# Altium footprint library CCGA - Square.PcbLib: 4 footprints (part 2 of 2)
Each footprint in its own frame and in the unit in brackets; x right, y up, seen from the top. Pads: shape width x height; smd on the part's side, far side on the other; paste and mask are expansions set on the pad; w line width, h text height; cw(c..) or ccw(c..) is an arc to the next point about the centre after c.
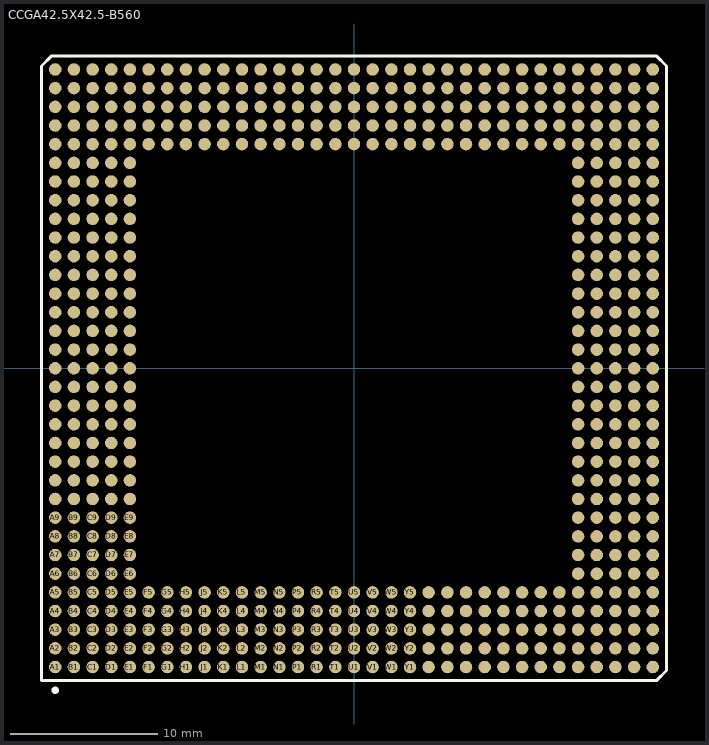
[diagram p1: the footprint, top view; thin cyan lines are the x and y axes]

## CCGA42.5X42.5-B560 [mm] "560-Pin Ceramic Column Grid Array Package (CG560)"
height 5.35
pads (560):
  round 0.85 smd: A1(-20.32,-20.32) A2(-20.32,-19.05) A3(-20.32,-17.78) A4(-20.32,-16.51) A5(-20.32,-15.24) A6(-20.32,-13.97) A7(-20.32,-12.7) A8(-20.32,-11.43) A9(-20.32,-10.16) A10(-20.32,-8.89) A11(-20.32,-7.62) A12(-20.32,-6.35) A13(-20.32,-5.08) A14(-20.32,-3.81) A15(-20.32,-2.54) A16(-20.32,-1.27) A17(-20.32,0) A18(-20.32,1.27) A19(-20.32,2.54) A20(-20.32,3.81) A21(-20.32,5.08) A22(-20.32,6.35) A23(-20.32,7.62) A24(-20.32,8.89) A25(-20.32,10.16) A26(-20.32,11.43) A27(-20.32,12.7) A28(-20.32,13.97) A29(-20.32,15.24) A30(-20.32,16.51) A31(-20.32,17.78) A32(-20.32,19.05) A33(-20.32,20.32) AA1(5.08,-20.32) AA2(5.08,-19.05) AA3(5.08,-17.78) AA4(5.08,-16.51) AA5(5.08,-15.24) AA29(5.08,15.24) AA30(5.08,16.51) AA31(5.08,17.78) AA32(5.08,19.05) AA33(5.08,20.32) AB1(6.35,-20.32) AB2(6.35,-19.05) AB3(6.35,-17.78) AB4(6.35,-16.51) AB5(6.35,-15.24) AB29(6.35,15.24) AB30(6.35,16.51) AB31(6.35,17.78) AB32(6.35,19.05) AB33(6.35,20.32) AC1(7.62,-20.32) AC2(7.62,-19.05) AC3(7.62,-17.78) AC4(7.62,-16.51) AC5(7.62,-15.24) AC29(7.62,15.24) AC30(7.62,16.51) AC31(7.62,17.78) AC32(7.62,19.05) AC33(7.62,20.32) AD1(8.89,-20.32) AD2(8.89,-19.05) AD3(8.89,-17.78) AD4(8.89,-16.51) AD5(8.89,-15.24) AD29(8.89,15.24) AD30(8.89,16.51) AD31(8.89,17.78) AD32(8.89,19.05) AD33(8.89,20.32) AE1(10.16,-20.32) AE2(10.16,-19.05) AE3(10.16,-17.78) AE4(10.16,-16.51) AE5(10.16,-15.24) AE29(10.16,15.24) AE30(10.16,16.51) AE31(10.16,17.78) AE32(10.16,19.05) AE33(10.16,20.32) AF1(11.43,-20.32) AF2(11.43,-19.05) AF3(11.43,-17.78) AF4(11.43,-16.51) AF5(11.43,-15.24) AF29(11.43,15.24) AF30(11.43,16.51) AF31(11.43,17.78) AF32(11.43,19.05) AF33(11.43,20.32) AG1(12.7,-20.32) AG2(12.7,-19.05) AG3(12.7,-17.78) AG4(12.7,-16.51) AG5(12.7,-15.24) AG29(12.7,15.24) AG30(12.7,16.51) AG31(12.7,17.78) AG32(12.7,19.05) AG33(12.7,20.32) AH1(13.97,-20.32) AH2(13.97,-19.05) AH3(13.97,-17.78) AH4(13.97,-16.51) AH5(13.97,-15.24) AH29(13.97,15.24) AH30(13.97,16.51) AH31(13.97,17.78) AH32(13.97,19.05) AH33(13.97,20.32) AJ1(15.24,-20.32) AJ2(15.24,-19.05) AJ3(15.24,-17.78) AJ4(15.24,-16.51) AJ5(15.24,-15.24) AJ6(15.24,-13.97) AJ7(15.24,-12.7) AJ8(15.24,-11.43) AJ9(15.24,-10.16) AJ10(15.24,-8.89) AJ11(15.24,-7.62) AJ12(15.24,-6.35) AJ13(15.24,-5.08) AJ14(15.24,-3.81) AJ15(15.24,-2.54) AJ16(15.24,-1.27) AJ17(15.24,0) AJ18(15.24,1.27) AJ19(15.24,2.54) AJ20(15.24,3.81) AJ21(15.24,5.08) AJ22(15.24,6.35) AJ23(15.24,7.62) AJ24(15.24,8.89) AJ25(15.24,10.16) AJ26(15.24,11.43) AJ27(15.24,12.7) AJ28(15.24,13.97) AJ29(15.24,15.24) AJ30(15.24,16.51) AJ31(15.24,17.78) AJ32(15.24,19.05) AJ33(15.24,20.32) AK1(16.51,-20.32) AK2(16.51,-19.05) AK3(16.51,-17.78) AK4(16.51,-16.51) AK5(16.51,-15.24) AK6(16.51,-13.97) AK7(16.51,-12.7) AK8(16.51,-11.43) AK9(16.51,-10.16) AK10(16.51,-8.89) AK11(16.51,-7.62) AK12(16.51,-6.35) AK13(16.51,-5.08) AK14(16.51,-3.81) AK15(16.51,-2.54) AK16(16.51,-1.27) AK17(16.51,0) AK18(16.51,1.27) AK19(16.51,2.54) AK20(16.51,3.81) AK21(16.51,5.08) AK22(16.51,6.35) AK23(16.51,7.62) AK24(16.51,8.89) AK25(16.51,10.16) AK26(16.51,11.43) AK27(16.51,12.7) AK28(16.51,13.97) AK29(16.51,15.24) AK30(16.51,16.51) AK31(16.51,17.78) AK32(16.51,19.05) AK33(16.51,20.32) AL1(17.78,-20.32) AL2(17.78,-19.05) AL3(17.78,-17.78) AL4(17.78,-16.51) AL5(17.78,-15.24) AL6(17.78,-13.97) AL7(17.78,-12.7) AL8(17.78,-11.43) AL9(17.78,-10.16) AL10(17.78,-8.89) AL11(17.78,-7.62) AL12(17.78,-6.35) AL13(17.78,-5.08) AL14(17.78,-3.81) AL15(17.78,-2.54) AL16(17.78,-1.27) AL17(17.78,0) AL18(17.78,1.27) AL19(17.78,2.54) AL20(17.78,3.81) AL21(17.78,5.08) AL22(17.78,6.35) AL23(17.78,7.62) AL24(17.78,8.89) AL25(17.78,10.16) AL26(17.78,11.43) AL27(17.78,12.7) AL28(17.78,13.97) AL29(17.78,15.24) AL30(17.78,16.51) AL31(17.78,17.78) AL32(17.78,19.05) AL33(17.78,20.32) AM1(19.05,-20.32) AM2(19.05,-19.05) AM3(19.05,-17.78) AM4(19.05,-16.51) AM5(19.05,-15.24) AM6(19.05,-13.97) AM7(19.05,-12.7) AM8(19.05,-11.43) AM9(19.05,-10.16) AM10(19.05,-8.89) AM11(19.05,-7.62) AM12(19.05,-6.35) AM13(19.05,-5.08) AM14(19.05,-3.81) AM15(19.05,-2.54) AM16(19.05,-1.27) AM17(19.05,0) AM18(19.05,1.27) AM19(19.05,2.54) AM20(19.05,3.81) AM21(19.05,5.08) AM22(19.05,6.35) AM23(19.05,7.62) AM24(19.05,8.89) AM25(19.05,10.16) AM26(19.05,11.43) AM27(19.05,12.7) AM28(19.05,13.97) AM29(19.05,15.24) AM30(19.05,16.51) AM31(19.05,17.78) AM32(19.05,19.05) AM33(19.05,20.32) AN1(20.32,-20.32) AN2(20.32,-19.05) AN3(20.32,-17.78) AN4(20.32,-16.51) AN5(20.32,-15.24) AN6(20.32,-13.97) AN7(20.32,-12.7) AN8(20.32,-11.43) AN9(20.32,-10.16) AN10(20.32,-8.89) AN11(20.32,-7.62) AN12(20.32,-6.35) AN13(20.32,-5.08) AN14(20.32,-3.81) AN15(20.32,-2.54) AN16(20.32,-1.27) AN17(20.32,0) AN18(20.32,1.27) AN19(20.32,2.54) AN20(20.32,3.81) AN21(20.32,5.08) AN22(20.32,6.35) AN23(20.32,7.62) AN24(20.32,8.89) AN25(20.32,10.16) AN26(20.32,11.43) AN27(20.32,12.7) AN28(20.32,13.97) AN29(20.32,15.24) AN30(20.32,16.51) AN31(20.32,17.78) AN32(20.32,19.05) AN33(20.32,20.32) B1(-19.05,-20.32) B2(-19.05,-19.05) B3(-19.05,-17.78) B4(-19.05,-16.51) B5(-19.05,-15.24) B6(-19.05,-13.97) B7(-19.05,-12.7) B8(-19.05,-11.43) B9(-19.05,-10.16) B10(-19.05,-8.89) B11(-19.05,-7.62) B12(-19.05,-6.35) B13(-19.05,-5.08) B14(-19.05,-3.81) B15(-19.05,-2.54) B16(-19.05,-1.27) B17(-19.05,0) B18(-19.05,1.27) B19(-19.05,2.54) B20(-19.05,3.81) B21(-19.05,5.08) B22(-19.05,6.35) B23(-19.05,7.62) B24(-19.05,8.89) B25(-19.05,10.16) B26(-19.05,11.43) B27(-19.05,12.7) B28(-19.05,13.97) B29(-19.05,15.24) B30(-19.05,16.51) B31(-19.05,17.78) B32(-19.05,19.05) B33(-19.05,20.32) C1(-17.78,-20.32) C2(-17.78,-19.05) C3(-17.78,-17.78) C4(-17.78,-16.51) C5(-17.78,-15.24) C6(-17.78,-13.97) C7(-17.78,-12.7) C8(-17.78,-11.43) C9(-17.78,-10.16) C10(-17.78,-8.89) C11(-17.78,-7.62) C12(-17.78,-6.35) C13(-17.78,-5.08) C14(-17.78,-3.81) C15(-17.78,-2.54) C16(-17.78,-1.27) C17(-17.78,0) C18(-17.78,1.27) C19(-17.78,2.54) C20(-17.78,3.81) C21(-17.78,5.08) C22(-17.78,6.35) C23(-17.78,7.62) C24(-17.78,8.89) C25(-17.78,10.16) C26(-17.78,11.43) C27(-17.78,12.7) C28(-17.78,13.97) C29(-17.78,15.24) C30(-17.78,16.51) C31(-17.78,17.78) C32(-17.78,19.05) C33(-17.78,20.32) D1(-16.51,-20.32) D2(-16.51,-19.05) D3(-16.51,-17.78) D4(-16.51,-16.51) D5(-16.51,-15.24) D6(-16.51,-13.97) D7(-16.51,-12.7) D8(-16.51,-11.43) D9(-16.51,-10.16) D10(-16.51,-8.89) D11(-16.51,-7.62) D12(-16.51,-6.35) D13(-16.51,-5.08) D14(-16.51,-3.81) D15(-16.51,-2.54) D16(-16.51,-1.27) D17(-16.51,0) D18(-16.51,1.27) D19(-16.51,2.54) D20(-16.51,3.81) D21(-16.51,5.08) D22(-16.51,6.35) D23(-16.51,7.62) D24(-16.51,8.89) D25(-16.51,10.16) D26(-16.51,11.43) D27(-16.51,12.7) D28(-16.51,13.97) D29(-16.51,15.24) D30(-16.51,16.51) D31(-16.51,17.78) D32(-16.51,19.05) D33(-16.51,20.32) E1(-15.24,-20.32) E2(-15.24,-19.05) E3(-15.24,-17.78) E4(-15.24,-16.51) E5(-15.24,-15.24) E6(-15.24,-13.97) E7(-15.24,-12.7) E8(-15.24,-11.43) E9(-15.24,-10.16) E10(-15.24,-8.89) E11(-15.24,-7.62) E12(-15.24,-6.35) E13(-15.24,-5.08) E14(-15.24,-3.81) E15(-15.24,-2.54) E16(-15.24,-1.27) E17(-15.24,0) E18(-15.24,1.27) E19(-15.24,2.54) E20(-15.24,3.81) E21(-15.24,5.08) E22(-15.24,6.35) E23(-15.24,7.62) E24(-15.24,8.89) E25(-15.24,10.16) E26(-15.24,11.43) E27(-15.24,12.7) E28(-15.24,13.97) E29(-15.24,15.24) E30(-15.24,16.51) E31(-15.24,17.78) E32(-15.24,19.05) E33(-15.24,20.32) F1(-13.97,-20.32) F2(-13.97,-19.05) F3(-13.97,-17.78) F4(-13.97,-16.51) F5(-13.97,-15.24) F29(-13.97,15.24) F30(-13.97,16.51) F31(-13.97,17.78) F32(-13.97,19.05) F33(-13.97,20.32) G1(-12.7,-20.32) G2(-12.7,-19.05) G3(-12.7,-17.78) G4(-12.7,-16.51) G5(-12.7,-15.24) G29(-12.7,15.24) G30(-12.7,16.51) G31(-12.7,17.78) G32(-12.7,19.05) G33(-12.7,20.32) H1(-11.43,-20.32) H2(-11.43,-19.05) H3(-11.43,-17.78) H4(-11.43,-16.51) H5(-11.43,-15.24) H29(-11.43,15.24) H30(-11.43,16.51) H31(-11.43,17.78) H32(-11.43,19.05) H33(-11.43,20.32) J1(-10.16,-20.32) J2(-10.16,-19.05) J3(-10.16,-17.78) J4(-10.16,-16.51) J5(-10.16,-15.24) J29(-10.16,15.24) J30(-10.16,16.51) J31(-10.16,17.78) J32(-10.16,19.05) J33(-10.16,20.32) K1(-8.89,-20.32) K2(-8.89,-19.05) K3(-8.89,-17.78) K4(-8.89,-16.51) K5(-8.89,-15.24) K29(-8.89,15.24) K30(-8.89,16.51) K31(-8.89,17.78) K32(-8.89,19.05) K33(-8.89,20.32) L1(-7.62,-20.32) L2(-7.62,-19.05) L3(-7.62,-17.78) L4(-7.62,-16.51) L5(-7.62,-15.24) L29(-7.62,15.24) L30(-7.62,16.51) L31(-7.62,17.78) L32(-7.62,19.05) L33(-7.62,20.32) M1(-6.35,-20.32) M2(-6.35,-19.05) M3(-6.35,-17.78) M4(-6.35,-16.51) M5(-6.35,-15.24) M29(-6.35,15.24) M30(-6.35,16.51) M31(-6.35,17.78) M32(-6.35,19.05) M33(-6.35,20.32) N1(-5.08,-20.32) N2(-5.08,-19.05) N3(-5.08,-17.78) N4(-5.08,-16.51) N5(-5.08,-15.24) N29(-5.08,15.24) N30(-5.08,16.51) N31(-5.08,17.78) N32(-5.08,19.05) N33(-5.08,20.32) P1(-3.81,-20.32) P2(-3.81,-19.05) P3(-3.81,-17.78) P4(-3.81,-16.51) P5(-3.81,-15.24) P29(-3.81,15.24) P30(-3.81,16.51) P31(-3.81,17.78) P32(-3.81,19.05) P33(-3.81,20.32) R1(-2.54,-20.32) R2(-2.54,-19.05) R3(-2.54,-17.78) R4(-2.54,-16.51) R5(-2.54,-15.24) R29(-2.54,15.24) R30(-2.54,16.51) R31(-2.54,17.78) R32(-2.54,19.05) R33(-2.54,20.32) T1(-1.27,-20.32) T2(-1.27,-19.05) T3(-1.27,-17.78) T4(-1.27,-16.51) T5(-1.27,-15.24) T29(-1.27,15.24) T30(-1.27,16.51) T31(-1.27,17.78) T32(-1.27,19.05) T33(-1.27,20.32) U1(0,-20.32) U2(0,-19.05) U3(0,-17.78) U4(0,-16.51) U5(0,-15.24) U29(0,15.24) U30(0,16.51) U31(0,17.78) U32(0,19.05) U33(0,20.32) V1(1.27,-20.32) V2(1.27,-19.05) V3(1.27,-17.78) V4(1.27,-16.51) V5(1.27,-15.24) V29(1.27,15.24) V30(1.27,16.51) V31(1.27,17.78) V32(1.27,19.05) V33(1.27,20.32) W1(2.54,-20.32) W2(2.54,-19.05) W3(2.54,-17.78) W4(2.54,-16.51) W5(2.54,-15.24) W29(2.54,15.24) W30(2.54,16.51) W31(2.54,17.78) W32(2.54,19.05) W33(2.54,20.32) Y1(3.81,-20.32) Y2(3.81,-19.05) Y3(3.81,-17.78) Y4(3.81,-16.51) Y5(3.81,-15.24) Y29(3.81,15.24) Y30(3.81,16.51) Y31(3.81,17.78) Y32(3.81,19.05) Y33(3.81,20.32)
Top Overlay:
  circle w0.25: c-20.32,-21.905 r0.125
  lines w0.2: -21.25,-21.25 20.557,-21.25 21.25,-20.557 21.25,20.557 20.557,21.25 -20.557,21.25 -21.25,20.557 -21.25,-21.25